# Altium schematic symbol library MBRS520.SchLib: 1 symbol
Pins are listed as number, name and electrical type; pins without a type are passive.

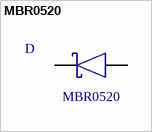
[diagram p0: symbol MBR0520]

## MBR0520
designator D  value MBR0520  (hidden comment: *)
Manufacturer: ON SEMICONDUCTOR; Manufacturer Code: MBR0520LT3G; Current: 500mA; Voltage: 20V; Farnell Code: 2533224; Unit Price: 0,75 €
footprint SOD-123 (Footprint not found)
pins: 1, 2